# EAGLE library part TPS2513 (library TexasInstruments)
USB Dedicated Charging Port Controller and Current Limiting Power Switch Source: Datasheet <http://www.ti.com/lit/gpn/tps2511>
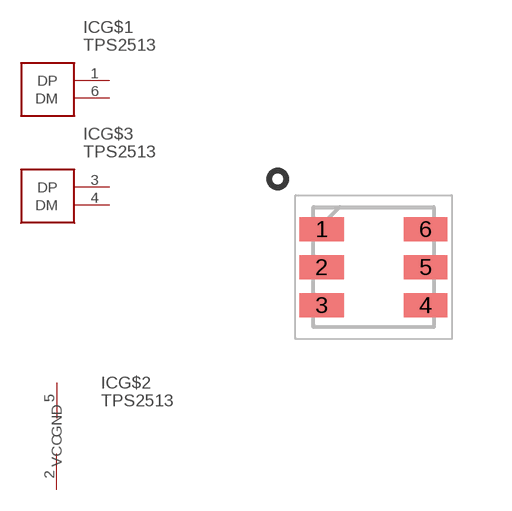
[diagram p2: symbol with the pads of SOT-23; footprint SOT-23]

Designator prefix IC; gates G$1=TPS2513_USB G$2=SUPPLY G$3=TPS2513_USB

## TPS2513  [SOT-23]
1  G$1:DP
2  G$2:GND
3  G$3:DP
4  G$3:DM
5  G$2:VCC
6  G$1:DM

## Footprint SOT-23 (pad centres in mm)
DGN (S-PDSO-G8)_2
smd 1.1 x 0.6: 1 -1.3,0.95; 2 -1.3,0; 3 -1.3,-0.95; 4 1.3,-0.95; 5 1.3,0; 6 1.3,0.95